# Altium integrated library SWITCH 8-POSITION DIP-DS01C-254-L-08BE.IntLib: 1 symbol
Pins are listed as number, name and electrical type; pins without a type are passive.

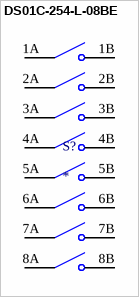
[diagram p0: symbol DS01C-254-L-08BE]

## DS01C-254-L-08BE
designator S?
8 Position, Through Hole, 2.54 mm Pitch, Raised Slide Actuator, Convex Bottom, Long Pin, DIP Switch; MF: Same Sky; MP: DS01C-254-L-08BE; SnapEDA_Link: https://www.snapeda.com/parts/DS01C-254-L-08BE/Same+Sky/view-part/?ref=snap; Package: None; Value: *; Check_prices: https://www.snapeda.com/parts/DS01C-254-L-08BE/Same+Sky/view-part/?ref=eda
footprint SW_DS01C-254-L-08BE
pins: 1A COM1, 1B NO1, 2A COM2, 2B NO2, 3A COM3, 3B NO3, 4A COM4, 4B NO4, 5A COM5, 5B NO5, 6A COM6, 6B NO6, 7A COM7, 7B NO7, 8A COM8, 8B NO8